# Altium footprint library STC32F_48P_CCD主板_V1.1.PcbLib: 27 footprints (part 2 of 2)
Each footprint in its own frame and in the unit in brackets; x right, y up, seen from the top. Pads: shape width x height; smd on the part's side, far side on the other; paste and mask are expansions set on the pad; w line width, h text height; cw(c..) or ccw(c..) is an arc to the next point about the centre after c.
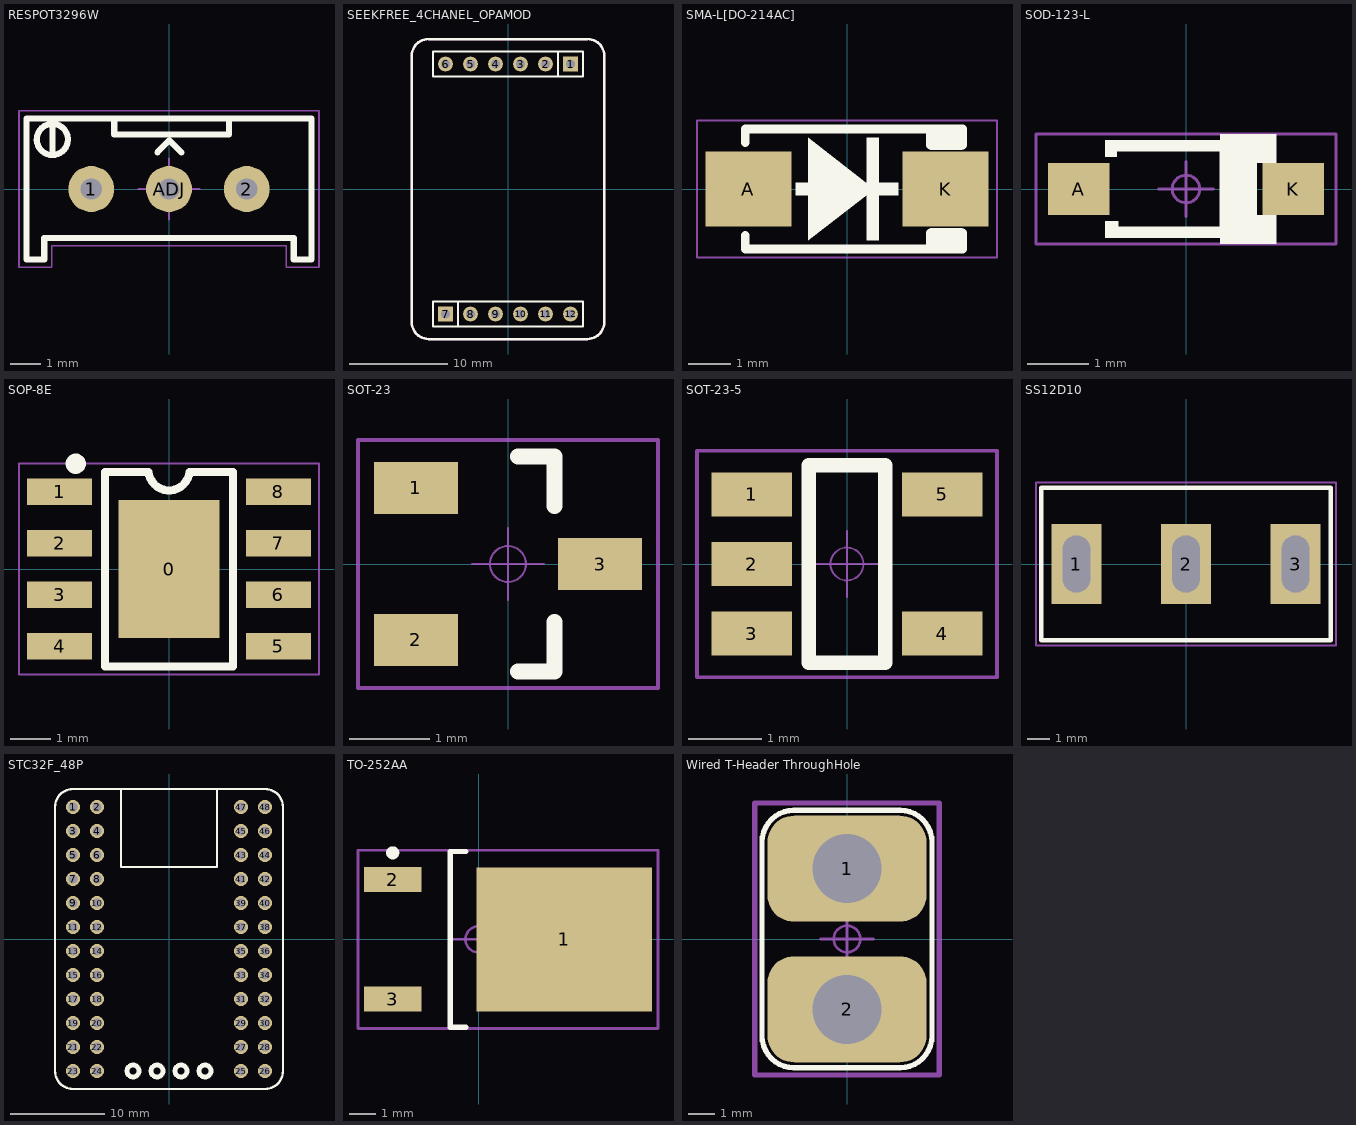
[diagram p1: the footprints below, top view; thin cyan lines are the x and y axes]

## RESPOT3296W [mm] "3296W 精密可调电阻 顶调"
height 0.6
pads (3):
  round 1.5 hole 0.7: 1(-2.54,0) 2(2.54,0) ADJ(0,0)
Top Overlay:
  lines w0.2: -3.8,1.125 -3.8,2.125 ; -3.302,1.651 ccw(c-3.81,1.618) -3.301,1.608 ; -1.79,2.286 -1.79,1.778 1.96,1.778 1.96,2.286 ; -0.381,1.194 0.013,1.587 0.406,1.194 ; -4.65,-2.3 -4.075,-2.3 -4.075,-1.602 4.075,-1.602 4.075,-2.3 4.65,-2.3 4.65,2.3 -4.65,2.3 -4.65,-2.3
Top Designator:
  text ".Designator" at 2.161,0.126 h1
Top Component Outline:
  lines w0.05: -4.9,-2.55 -3.825,-2.55 -3.825,-1.85 -3.16,-1.85 2.8,-1.85 3.825,-1.85 3.825,-2.55 4.9,-2.55 4.9,2.55 -4.9,2.55 -4.9,-2.55
Top Component Center:
  circle w0.05: c0,0 r0.5
  lines w0.05: -1,0 1,0 ; 0,-1 0,1
3D body "3296.STEP": height 3.1, standoff -11.9, extent -4.75,-2.4 4.75,2.4

## SEEKFREE_4CHANEL_OPAMOD [mm]
height 0.6
pads (12):
  rect 1.5x1.5 hole 0.9: 1(6.35,12.7) 7(-6.35,-12.7)
  round 1.5 hole 0.9: 2(3.81,12.7) 3(1.27,12.7) 4(-1.27,12.7) 5(-3.81,12.7) 6(-6.35,12.7) 8(-3.81,-12.7) 9(-1.27,-12.7) 10(1.27,-12.7) 11(3.81,-12.7) 12(6.35,-12.7)
Top Overlay:
  lines w0.2: -5.1,-13.95 -5.1,-11.45 ; 5.1,11.45 5.1,13.95 ; -7.62,-13.97 -7.62,-11.43 7.62,-11.43 7.62,-13.97 -7.62,-13.97 ; -7.62,11.43 -7.62,13.97 7.62,13.97 7.62,11.43 -7.62,11.43
Top Overlay keep-out:
  lines w0.254: -9.779,-13.524 ccw(c-8.063,-13.524) -8.063,-15.24 8.063,-15.24 ccw(c8.063,-13.524) 9.779,-13.524 9.779,13.524 ccw(c8.063,13.524) 8.063,15.24 -8.063,15.24 ccw(c-8.063,13.524) -9.779,13.524 -9.779,-13.524
Top Designator:
  text ".Designator" at -2.251,-0.226 h1
3D body "Female-Header-2.54-Single-6.stp": height 8.5, standoff -3.2, extent -7.743,11.475 7.747,13.975
3D body "Female-Header-2.54-Single-6.stp": height 8.5, standoff -3.2, extent -7.747,-13.975 7.743,-11.475
3D body "1001-6.STEP": height 8.54, standoff -3, extent -7.62,-13.97 7.62,-11.43
3D body "1001-6.STEP": height 8.54, standoff -3, extent -7.62,11.43 7.62,13.97

## SMA-L[DO-214AC] [mm] "SMA 二极管 贴片 IPC高密度"
height 2.31
pads (2):
  rect 2x1.75 smd: A(-2.3,0) K(2.3,0)
Top Overlay:
  rectangle: 1.941,-1.4 2.7,-0.914
  rectangle: 1.941,0.914 2.7,1.395
  rectangle: 0.451,-1.2 0.751,1.2
  rectangle: -1.2,-0.149 1.2,0.151
  region: -0.902,1.2 -0.902,-1.2 0.635,0
  lines w0.2: -2.375,-1.075 -2.375,-1.4 2.7,-1.4 2.7,-1.016 ; -2.375,1.075 -2.375,1.4 2.7,1.4 2.7,1.016 ; 1.941,-1.395 1.941,-1.016 ; 1.941,1.016 1.941,1.395
Top Designator:
  text ".Designator" at 2.251,0.226 h1
Top Component Outline:
  lines w0.05: -3.5,-1.6 3.5,-1.6 3.5,1.6 -3.5,1.6 -3.5,-1.6
Top Component Center:
  circle w0.05: c0,0 r0.225
  lines w0.05: -0.45,0 0.45,0 ; 0,-0.45 0,0.45
3D body "SMA(DO-214AC).STEP": height 2.3, standoff 0, extent -2.905,-1.46 2.905,1.46

## SOD-123-L [mm] "SOD Diode;2.70mm W X 1.60mm L X 1.35mm H body"
height 1.35
pads (2):
  rect 1x0.85 smd: A(-1.75,0) K(1.75,0)
Top Overlay:
  rectangle: 0.55,-0.796 1.16,0.804
  rectangle: 0.554,-0.9 1.479,-0.697
  rectangle: -1.143,0.612 0.584,0.8
  rectangle: 0.554,0.697 1.479,0.9
  rectangle: -1.143,-0.8 0.584,-0.612
  rectangle: 1.15,0.425 1.475,0.8
  rectangle: 1.15,-0.8 1.475,-0.425
  region: -1.1,-0.525 -1.325,-0.525 -1.325,-0.8 -1.1,-0.8
  region: -1.125,0.8 -1.325,0.8 -1.325,0.525 -1.125,0.525
Top Designator:
  text ".Designator" at 2.251,0.226 h1
Top Component Outline:
  lines w0.05: -2.45,-0.9 -2.45,0.9 2.45,0.9 2.45,-0.9 -2.45,-0.9
Top Component Center:
  circle w0.05: c0,0 r0.225
  lines w0.05: -0.45,0 0.45,0 ; 0,-0.45 0,0.45
3D body "SOD-123.STEP": height 1.2, standoff 0, extent -1.85,-0.8 1.85,0.8

## SOP-8E [mm] "SOIC,1.27mm pitch;8 pin,3.90mm W X 4.88mm L X 1.73mm H body"
height 0.6
pads (9):
  rect 2.5x3.4 smd: 0(0,0)
  rect 1.6x0.65 smd: 1(-2.7,1.905) 2(-2.7,0.635) 3(-2.7,-0.635) 4(-2.7,-1.905) 5(2.7,-1.905) 6(2.7,-0.635) 7(2.7,0.635) 8(2.7,1.905)
Top Overlay:
  circle w0.25: c-2.3,2.6 r0.125
  lines w0.2: -0.508,2.4 -1.575,2.4 -1.575,-2.4 1.575,-2.4 1.575,2.4 0.508,2.4 ; -0.505,2.399 ccw(c0,2.45) 0.505,2.399
Top Designator:
  text ".Designator" at -2.251,-0.114 h1
Top Component Outline:
  lines w0.05: -3.7,-2.6 3.7,-2.6 3.7,2.6 -3.7,2.6 -3.7,-2.6
Top Component Center:
  circle w0.05: c0,0 r0.35
  lines w0.05: -0.5,0 0.5,0 ; 0,-0.5 0,0.5
3D body "SOIC8.STEP": height 1.75, standoff 0, extent -3.105,-2.45 3.105,2.45

## SOT-23 [mm] "SOT23, 3-Leads, Body 2.90x2.40mm, Pitch 0.95mm, IPC Medium Density"
height 1.1
pads (3):
  rect 1.05x0.65 smd: 1(-1.15,0.95) 2(-1.15,-0.95) 3(1.15,0)
Top Overlay:
  lines w0.2: 0.127,-1.346 0.584,-1.346 0.584,-0.725 ; 0.127,1.346 0.584,1.346 0.584,0.725
Top Designator:
  text ".Designator" at -2.251,-0.226 h1
Top Component Outline:
  lines w0.05: -1.875,-1.55 -1.875,1.55 1.875,1.55 1.875,-1.55 -1.875,-1.55
Top Component Center:
  circle w0.025: c0,0 r0.225
  lines w0.025: -0.45,0 0.45,0 ; 0,-0.45 0,0.45
3D body "SOT-23-3P.STEP": height 1.2, standoff 0, extent -1.4,-1.45 1.4,1.45

## SOT-23-5 [mm] "SOT23, 5-Leads, Body 2.92x2.79mm, Pitch 0.95mm, IPC Medium Density"
height 1.42
pads (5):
  rect 1.1x0.6 smd: 1(-1.3,0.95) 2(-1.3,0) 3(-1.3,-0.95) 4(1.3,-0.95) 5(1.3,0.95)
Top Overlay:
  lines w0.2: -0.525,-1.35 -0.525,1.35 0.525,1.35 0.525,-1.35 -0.525,-1.35
Top Designator:
  text ".Designator" at -2.251,-0.226 h1
Top Component Outline:
  lines w0.05: -2.05,-1.55 -2.05,1.55 2.05,1.55 2.05,-1.55 -2.05,-1.55
Top Component Center:
  circle w0.025: c0,0 r0.225
  lines w0.025: -0.45,0 0.45,0 ; 0,-0.45 0,0.45
3D body "SOT-5.stp": height 1.08, standoff -0.01, extent -1.423,-1.461 1.422,1.46

## SS12D10 [mm] "拨动开关，直脚，脚距4.8"
height 0.6
pads (3):
  rect 2.2x3.5 hole 1.2 slot 2.5 at 90 deg mask+0.07: 1(-4.8,0) 2(0,0) 3(4.8,0)
Top Overlay:
  lines w0.2: -6.35,-3.35 6.35,-3.35 6.35,3.35 -6.35,3.35 -6.35,-3.3
Top Designator:
  text ".Designator" at -0.226,2.339 h1
Top Component Outline:
  lines w0.1: -6.575,-3.575 6.575,-3.575 6.575,3.575 -6.575,3.575 -6.575,-3.575
Top Component Center:
  circle w0.1: c0,0 r0.5
  lines w0.1: -1,0 1,0 ; 0,-1 0,1
3D body "ms-13aap1.stp": height 12.5, standoff -5.4, extent -6.4,-3.3 6.35,3.8

## STC32F_48P [mm] "核心板"
height 0.6
pads (48):
  round 1.5 hole 0.9: 1(-10.16,13.97) 2(-7.62,13.97) 3(-10.16,11.43) 4(-7.62,11.43) 5(-10.16,8.89) 6(-7.62,8.89) 7(-10.16,6.35) 8(-7.62,6.35) 9(-10.16,3.81) 10(-7.62,3.81) 11(-10.16,1.27) 12(-7.62,1.27) 13(-10.16,-1.27) 14(-7.62,-1.27) 15(-10.16,-3.81) 16(-7.62,-3.81) 17(-10.16,-6.35) 18(-7.62,-6.35) 19(-10.16,-8.89) 20(-7.62,-8.89) 21(-10.16,-11.43) 22(-7.62,-11.43) 23(-10.16,-13.97) 24(-7.62,-13.97) 25(7.62,-13.97) 26(10.16,-13.97) 27(7.62,-11.43) 28(10.16,-11.43) 29(7.62,-8.89) 30(10.16,-8.89) 31(7.62,-6.35) 32(10.16,-6.35) 33(7.62,-3.81) 34(10.16,-3.81) 35(7.62,-1.27) 36(10.16,-1.27) 37(7.62,1.27) 38(10.16,1.27) 39(7.62,3.81) 40(10.16,3.81) 41(7.62,6.35) 42(10.16,6.35) 43(7.62,8.89) 44(10.16,8.89) 45(7.62,11.43) 46(10.16,11.43) 47(7.62,13.97) 48(10.16,13.97)
Top Overlay:
  circle w0.508: c3.81,-13.97 r0.635
  circle w0.508: c1.27,-13.97 r0.635
  circle w0.508: c-1.27,-13.97 r0.635
  circle w0.508: c-3.81,-13.97 r0.635
  lines w0.254: -5.08,15.875 -5.08,7.62 5.08,7.62 5.08,15.875 ; -12.065,-13.97 ccw(c-10.16,-13.97) -10.16,-15.875 10.16,-15.875 ccw(c10.16,-13.97) 12.065,-13.97 12.065,13.97 ccw(c10.16,13.97) 10.16,15.875 -10.16,15.875 ccw(c-10.16,13.97) -12.065,13.97 -12.065,-13.97

## TO-252AA [mm] "D-PAK, 4-Leads, Body 6.1x6.5mm, Pitch 2.28mm, Lead Span 9.8mm, IPC Low Density"
height 2.38
pads (3):
  rect 6.7x5.5 smd: 1(3.275,0)
  rect 2.2x0.95 smd: 2(-3.275,2.28) 3(-3.275,-2.28)
Top Overlay:
  circle w0.25: c-3.275,3.305 r0.125
  lines w0.2: -0.475,-3.35 -1.075,-3.35 -1.075,3.35 -0.475,3.35
Top Designator:
  text ".Designator" at -1.126,-0.174 h1
Top Component Outline:
  lines w0.1: -4.6,-3.4 -4.6,3.4 6.85,3.4 6.85,-3.4 -4.6,-3.4
Top Component Center:
  circle w0.1: c0,0 r0.5
  lines w0.1: -1,0 1,0 ; 0,-1 0,1
3D body "User Library-DPAK-1.STEP": height 2.39, standoff -0.02, extent -3.775,-3.27 6.163,3.27

## Wired T-Header ThroughHole [mm] "带线T头直插焊盘"
height 0.6
pads (2):
  rrect50% 6x4 hole 2.6: 1(0,2.65) 2(0,-2.65)
Top Overlay:
  lines w0.203: -3.2,-3.65 ccw(c-2,-3.65) -2,-4.85 2,-4.85 ccw(c2,-3.65) 3.2,-3.65 3.2,3.65 ccw(c2,3.65) 2,4.85 -2,4.85 ccw(c-2,3.65) -3.2,3.65 -3.2,-3.65
Top Designator:
  text ".Designator" at -2.251,-0.226 h1
Top Component Outline:
  lines w0.2: -3.475,-5.125 -3.475,5.125 3.475,5.125 3.475,-5.125 -3.475,-5.125
Top Component Center:
  circle w0.1: c0,0 r0.5
  lines w0.1: -1,0 1,0 ; 0,-1 0,1